# Altium schematic symbol library Mircochip.SchLib: 2 symbols
Pins are listed as number, name and electrical type; pins without a type are passive.

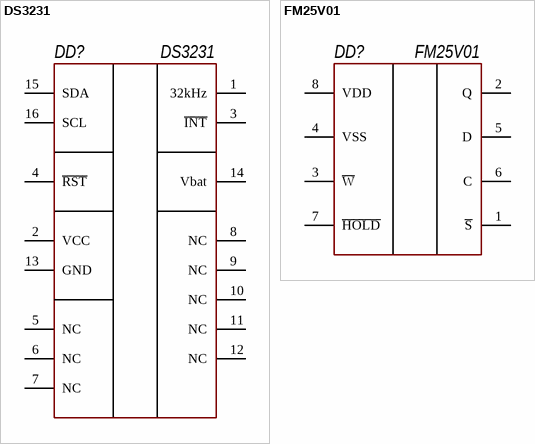
[diagram p0: symbols DS3231 to FM25V01]

## DS3231
designator DD?
footprint SO-16N (SO, 16-Leads, Body 10,30x7,49mm, Pitch 1,27mm, IPC Medium Density)
pins: 1 32kHz, 2 VCC, 3 ~{INT}, 4 ~{RST}, 5 NC, 6 NC, 7 NC, 8 NC, 9 NC, 10 NC, 11 NC, 12 NC, 13 GND, 14 Vbat, 15 SDA, 16 SCL

## FM25V01
designator DD?
footprint SOIC-8
pins: 1 ~{S}, 2 Q, 3 ~{W}, 4 VSS, 5 D, 6 C, 7 ~{HOLD}, 8 VDD